# Altium footprint library PcbLib1.PcbLib: 1 footprints
Each footprint in its own frame and in the unit in brackets; x right, y up, seen from the top. Pads: shape width x height; smd on the part's side, far side on the other; paste and mask are expansions set on the pad; w line width, h text height; cw(c..) or ccw(c..) is an arc to the next point about the centre after c.
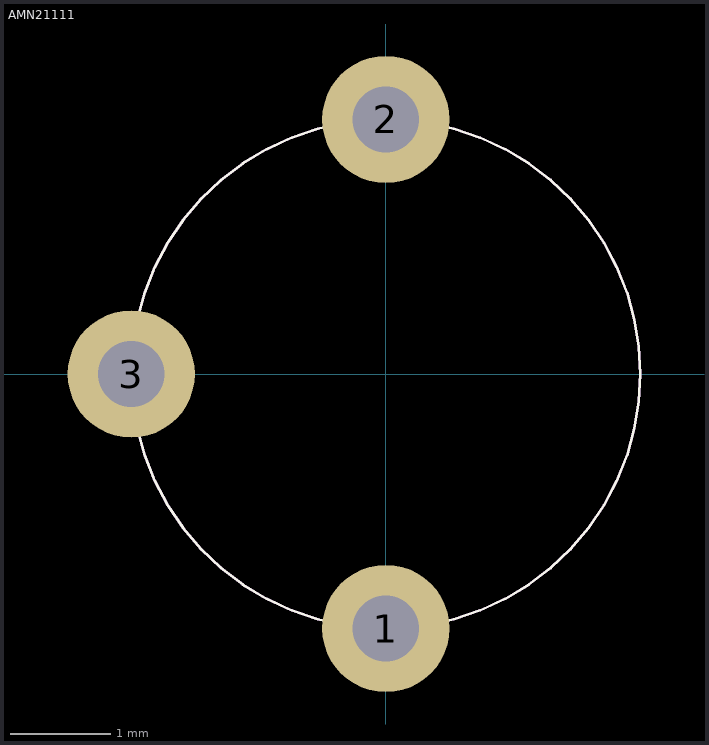
[diagram p0: the footprint, top view; thin cyan lines are the x and y axes]

## AMN21111 [mil]
pads (3):
  round 50 hole 26: 1(0,-100) 2(0,100) 3(-100,0)
Top Overlay:
  circle w1: c0,0 r100
Mechanical 1:
  circle w1: c0,0 r100